# Altium schematic symbol library Iot_Flatform_lib_schematic_PTT.SchLib: 33 symbols
Pins are listed as number, name and electrical type; pins without a type are passive.

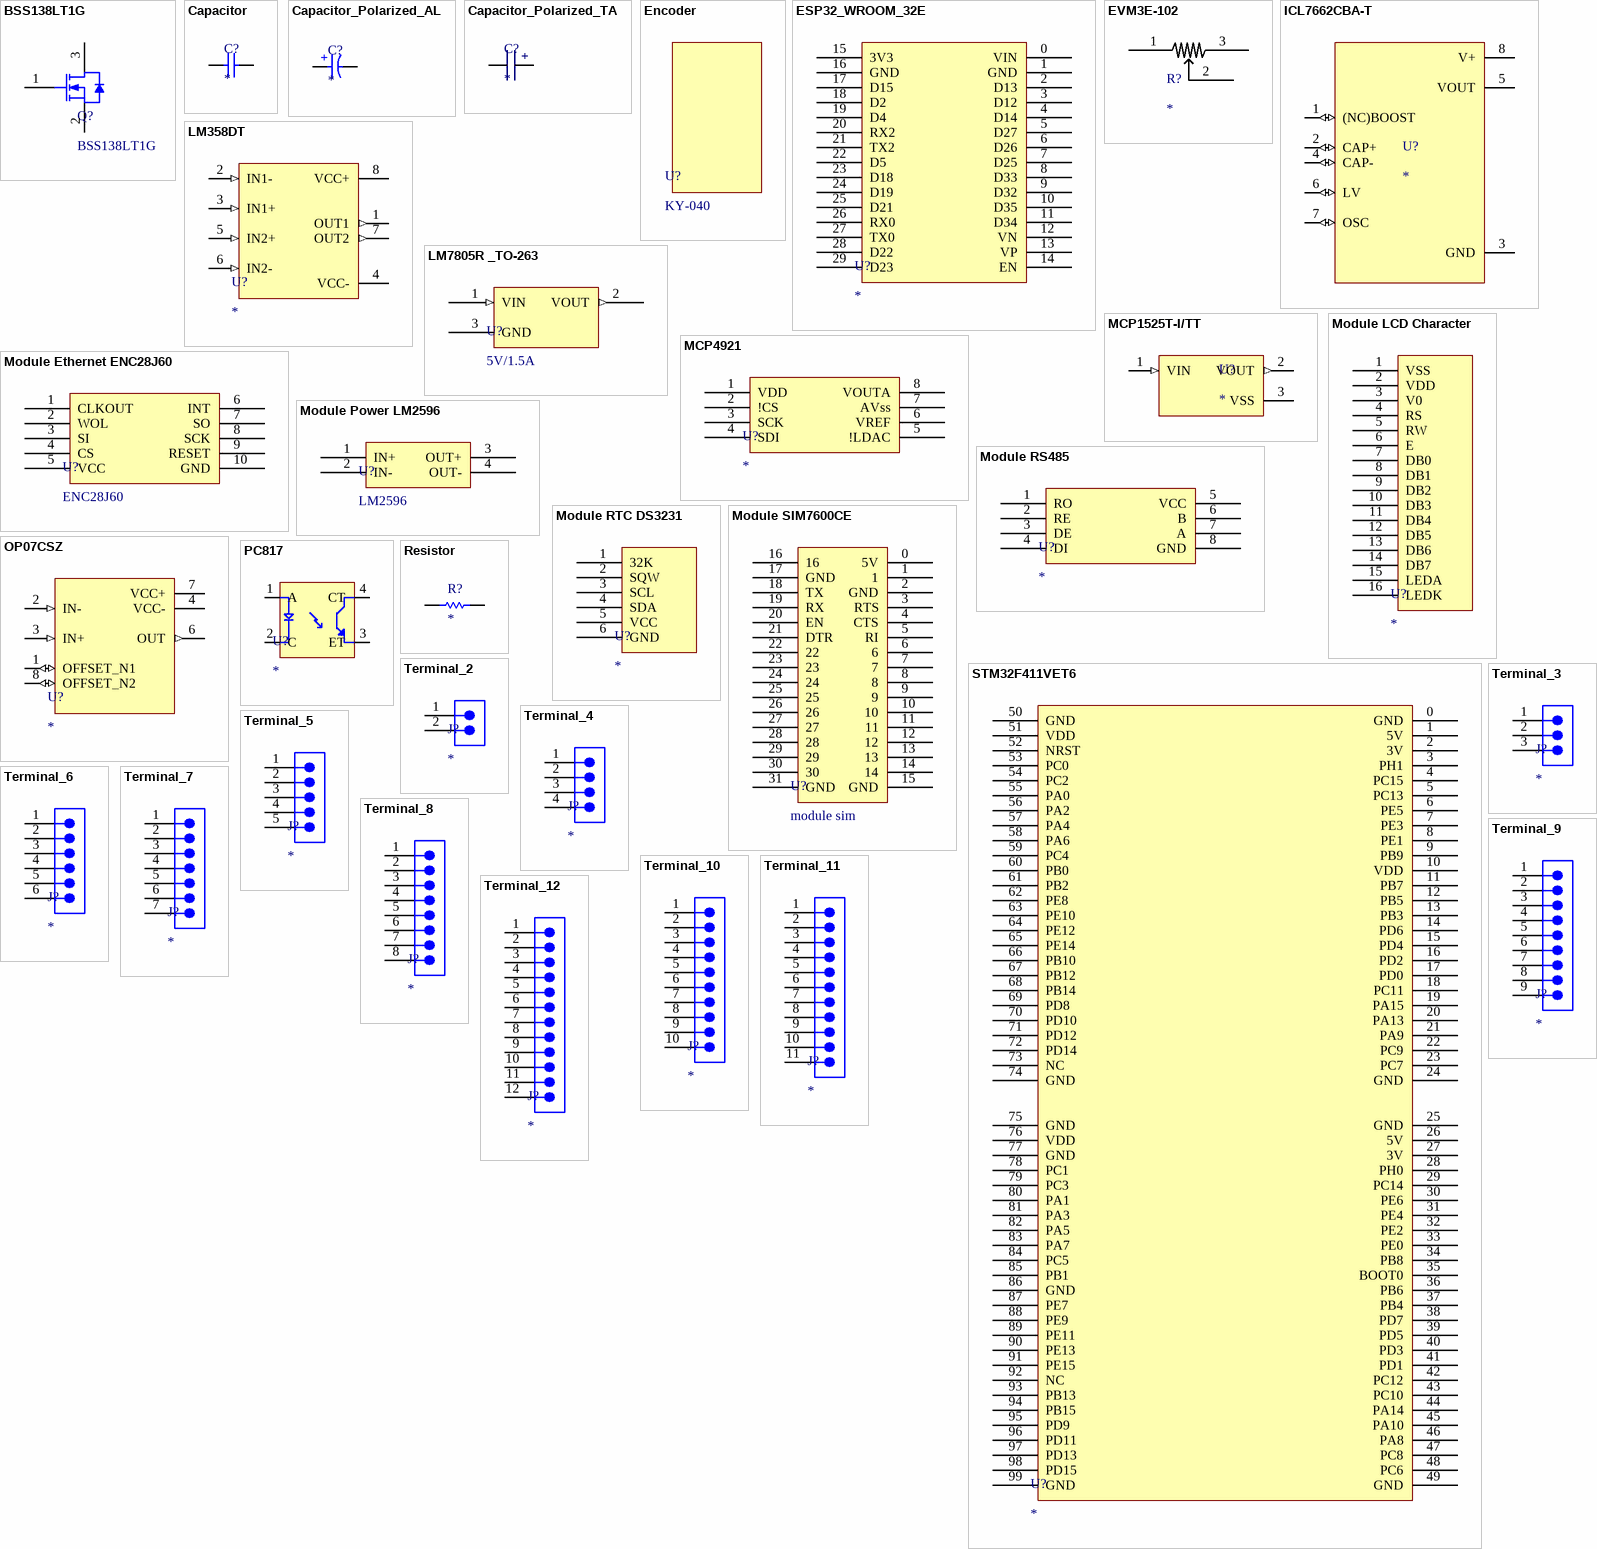
[diagram p0: symbols BSS138LT1G to Terminal_12]

## BSS138LT1G
designator Q?
BSS138LT1G, MOSFET, N ,50V, 200mA ,SOT-23; Size: SOT-23; URL: https://www.thegioiic.com/bss138lt1g-mosfet-kenh-n-50v-200ma-sot-23?gidzl=ejQjBwD9gJIgoweegb-XEgd0foIs3Qmxv9EgAUq7gMEvcFujlbAkFktE-2NgLAvjwy6k8Z0nh38heKYfCm; Value: BSS138LT1G
footprint SQ2398ES-SOT23
pins: 1 G, 2 S, 3 D

## Capacitor
designator C?
Size: *; URL: *; Value: *
footprint CAP_0603 (Chip Capacitor, 2-Leads, Body 1.80x0.80mm, IPC Medium Density)
footprint CAP_0805 (Chip Capacitor, 2-Leads, Body 2.00x1.20mm, IPC Medium Density)
footprint CAP_1210 (Chip Capacitor, 2-Leads, Body 3.20x1.60mm, IPC Medium Density)
pins: 1, 2

## Capacitor_Polarized_AL
designator C?
Size: *; URL: *; Value: *
footprint WCAP-ASLI_D6.3H5.5 (Aluminium Electrolytic V-Chip SMT Capacitors, 6.3x5.5mm)
footprint WCAP-ASLI_D5H5.5 (Aluminium Electrolytic V-Chip SMT Capacitors, 5x5.5mm)
footprint WCAP-ASLI_D6.3H6.1 (Aluminium Electrolytic V-Chip SMT Capacitors, 6.3x6.1mm)
footprint WCAP-ASLI_D6.3H7.7 (Aluminium Electrolytic V-Chip SMT Capacitors, 6.3x7.7mm)
footprint WCAP-ASLI_D8H6.5 (Aluminium Electrolytic V-Chip SMT Capacitors, 8x6.5mm)
footprint WCAP-ASLI_D8H10.5 (Aluminium Electrolytic V-Chip SMT Capacitors, 8x10.5mm)
footprint WCAP-ASLI_D10H10.5 (Aluminium Electrolytic V-Chip SMT Capacitors, 10x10.5mm)
footprint WCAP-ASLI_D12.5H14 (Aluminium Electrolytic V-Chip SMT Capacitors, 12.5x14mm)
footprint WCAP-ASLI_D16H17 (Aluminium Electrolytic V-Chip SMT Capacitors, 16x17mm)
pins: 1 P, 2 N
text: +

## Capacitor_Polarized_TA
designator C?
Size: *; URL: *; Value: *
footprint TANTALUM SMD A (SMD TIPO A 3.2x1.6x1.6)
footprint TANTALUM SMD B (SMD TIPO B 3.5x2.8x1.9)
footprint TANTALUM SMD C (SMD TIPO C 6.0x3.2x2.2)
footprint TANTALUM SMD D (SMD TIPO D 7.3x4.3x2.4)
footprint TANTALUM SMD E (SMD TIPO E  7.3x4.3x4.1)
footprint TANTALUM SMD M (SMD TIPO M 7.2 X 6.0)
footprint TANTALUM SMD V (SMD TIPO V 7.3 x 6.1)
pins: 1, 2
text: +

## Encoder
designator U?, comment KY-040
Size: *; Value: KY-040; URL: https://www.thegioiic.com/ky-040-mach-dieu-khien-goc-quay-encoder

## ESP32_WROOM_32E
designator U?
footprint ESP32_WROOM_32E
pins: 0 VIN, 1 GND, 2 D13, 3 D12, 4 D14, 5 D27, 6 D26, 7 D25, 8 D33, 9 D32, 10 D35, 11 D34, 12 VN, 13 VP, 14 EN, 15 3V3, 16 GND, 17 D15, 18 D2, 19 D4, 20 RX2, 21 TX2, 22 D5, 23 D18, 24 D19, 25 D21, 26 RX0, 27 TX0, 28 D22, 29 D23

## EVM3E-102
designator R?
1KOhm, 0.15W,  ±20%, EVM3E; Value: EVM3E-102; URL: https://www.thegioiic.com/evm3e-102-bien-tro-1-kohm-nut-ao-smd-0-15w; Size: EVM3E
footprint EVM3E
pins: 1, 2, 3

## ICL7662CBA-T
designator U?
Value: ICL7662CBA; Size: 8-SOIC; URL: https://www.thegioiic.com/icl7662cba
footprint SOIC127P600X175-8N
pins: 1 (NC)BOOST (io), 2 CAP+ (io), 3 GND (power), 4 CAP- (io), 5 VOUT (power), 6 LV (io), 7 OSC (io), 8 V+ (power)

## LM358DT
designator U?
General Purpose Amplifier 2 Circuit 8-SO; Value: LM358DT; Size: 8-SOIC; URL: https://www.thegioiic.com/lm358dt-ic-opamp-general-purpose-amplifier-2-circuit-1-1mhz-8-soic
footprint SOIC127P600X175-8N
pins: 1 OUT1 (out), 2 IN1- (in), 3 IN1+ (in), 4 VCC- (power), 5 IN2+ (in), 6 IN2- (in), 7 OUT2 (out), 8 VCC+ (power)

## LM7805R _TO-263
designator U?, comment 5V/1.5A
Size: TO-263; URL: https://www.thegioiic.com/lm7805r-ic-on-ap-5v-1-5a-to-263; Value: 5V/1.5A
footprint TO-263 (D2PAK)
pins: 1 VIN (in), 2 VOUT (out), 3 GND

## MCP1525T-I/TT
designator U?
Series Voltage Reference IC Â±1% SOT-23-3; Value: 2.5VDC; Size: SOT-23; URL: https://www.thegioiic.com/mcp1525t-i-tt-ic-tham-chieu-dien-ap-2-5v-sot-23
footprint SOT95P237X112-3N
pins: 1 VIN (in), 2 VOUT (out), 3 VSS (power)

## MCP4921
designator U?
Interface SPI; Value: MCP4921-E/SN; Size: 8-SOIC; URL: https://www.thegioiic.com/mcp4921-e-sn-ic-dac-12-bit-1-channel-8-soic
footprint SOIC127P600X175-8N
pins: 1 VDD, 2 !CS, 3 SCK, 4 SDI, 5 !LDAC, 6 VREF, 7 AVss, 8 VOUTA

## Module Ethernet ENC28J60
designator U?, comment ENC28J60
Interface SPI; URL: https://hshop.vn/products/mach-chuyen-giao-tiep-ethernet-enc28j60; Value: ENC28J60; Size: Module
pins: 1 CLKOUT, 2 WOL, 3 SI, 4 CS, 5 VCC, 6 INT, 7 SO, 8 SCK, 9 RESET, 10 GND

## Module LCD Character
designator U?
Interface GPIO
footprint LCD_1604
pins: 1 VSS, 2 VDD, 3 V0, 4 RS, 5 RW, 6 E, 7 DB0, 8 DB1, 9 DB2, 10 DB3, 11 DB4, 12 DB5, 13 DB6, 14 DB7, 15 LEDA, 16 LEDK

## Module Power LM2596
designator U?, comment LM2596
DC-DC Buck LM2596 3A
pins: 1 IN+, 2 IN-, 3 OUT+, 4 OUT-

## Module RS485
designator U?
Using module through UART
footprint MODULE_RS485
pins: 1 RO, 2 RE, 3 DE, 4 DI, 5 VCC, 6 B, 7 A, 8 GND

## Module RTC DS3231
designator U?
Interface I2C
footprint Module_DS3231
pins: 1 32K, 2 SQW, 3 SCL, 4 SDA, 5 VCC, 6 GND

## Module SIM7600CE
designator U?, comment module sim
footprint SIM7600CE
pins: 0 5V, 1, 2 GND, 3 RTS, 4 CTS, 5 RI, 6, 7, 8, 9, 10, 11, 12, 13, 14, 15 GND, 16, 17 GND, 18 TX, 19 RX, 20 EN, 21 DTR, 22, 23, 24, 25, 26, 27, 28, 29, 30, 31 GND

## OP07CSZ
designator U?
Low-Offset Voltage Operational Amplifier; Value: OP07CSZ; Size: 8-SOIC; URL: https://www.thegioiic.com/op07csz-ic-opamp-general-purpose-amplifier-1-circuit-600khz-8-soic
footprint SOIC127P600X175-8N
pins: 1 OFFSET_N1 (io), 2 IN- (in), 3 IN+ (in), 4 VCC- (power), 6 OUT (out), 7 VCC+ (power), 8 OFFSET_N2 (io)

## PC817
designator U?
Optoisolator Transistor Output 5000Vrms 1 Channel; Value: PC817C; URL: https://www.thegioiic.com/pc817c-smd-optoisolator-transistor-output-5000vrms-1-channel-4-sop; Size: 4-SOP
footprint SOT254P975X400-4N
pins: 1 A, 2 C, 3 ET, 4 CT

## Resistor
designator R?
Size: *; URL: *; Value: *
footprint RES_0603 (Chip Resistor, 2-Leads, Body 1.55x0.85mm, IPC Medium Density)
footprint RES_0805 (Chip Resistor, 2-Leads, Body 2.05x1.25mm, IPC Medium Density)
footprint RES_1206 (Chip Resistor, 2-Leads, Body 3.15x1.65mm, IPC Medium Density)
pins: 1, 2

## STM32F411VET6
designator U?
footprint STM32F4
pins: 0 GND, 1 5V, 2 3V, 3 PH1, 4 PC15, 5 PC13, 6 PE5, 7 PE3, 8 PE1, 9 PB9, 10 VDD, 11 PB7, 12 PB5, 13 PB3, 14 PD6, 15 PD4, 16 PD2, 17 PD0, 18 PC11, 19 PA15, 20 PA13, 21 PA9, 22 PC9, 23 PC7, 24 GND, 25 GND, 26 5V, 27 3V, 28 PH0, 29 PC14, 30 PE6, 31 PE4, 32 PE2, 33 PE0, 34 PB8, 35 BOOT0, 36 PB6, 37 PB4, 38 PD7, 39 PD5, 40 PD3, 41 PD1, 42 PC12, 43 PC10, 44 PA14, 45 PA10, 46 PA8, 47 PC8, 48 PC6, 49 GND, 50 GND, 51 VDD, 52 NRST, 53 PC0, 54 PC2, 55 PA0, 56 PA2, 57 PA4, 58 PA6, 59 PC4, 60 PB0, 61 PB2, 62 PE8, 63 PE10, 64 PE12, 65 PE14, 66 PB10, 67 PB12, 68 PB14, 69 PD8, 70 PD10, 71 PD12, 72 PD14, 73 NC, 74 GND, 75 GND, 76 VDD, 77 GND, 78 PC1, 79 PC3, 80 PA1, 81 PA3, 82 PA5, 83 PA7, 84 PC5, 85 PB1, 86 GND, 87 PE7, 88 PE9, 89 PE11, 90 PE13, 91 PE15, 92 NC, 93 PB13, 94 PB15, 95 PD9, 96 PD11, 97 PD13, 98 PD15, 99 GND

## Terminal_2
designator J?
Value: 20A, 300V
footprint TBL_2_3_81 (Horizontal PCB Header, pitch 3.81mm, 02p)
footprint TBL_2_5_08 (5,08mm - PCB Header Horizontal Entry with Plastic Latches - 02p)
pins: 1, 2

## Terminal_3
designator J?
Value: 20A, 300V
footprint TBL_3_3_81 (Horizontal PCB Header, pitch 3.81mm, 03p)
footprint TBL_3_5_08 (5,08mm - PCB Header Horizontal Entry with Plastic Latches - 03p)
pins: 1, 2, 3

## Terminal_4
designator J?
Value: 20A, 300V
footprint TBL_4_3_81 (Horizontal PCB Header, pitch 3.81mm, 04p)
footprint TBL_4_5_08 (5,08mm - PCB Header Horizontal Entry with Plastic Latches - 04p)
pins: 1, 2, 3, 4

## Terminal_5
designator J?
Value: 20A, 300V; Size: KF-5.08-2-R; URL: https://www.thegioiic.com/kf-5-08-2-r-terminal-block-plug-in-han-pcb-2-chan-cong-5-08mm-300v-15a
footprint TBL_5_3_81 (Horizontal PCB Header, pitch 3.81mm, 05p)
footprint TBL_5_5_08 (5,08mm - PCB Header Horizontal Entry with Plastic Latches - 05p)
pins: 1, 2, 3, 4, 5

## Terminal_6
designator J?
Value: 20A, 300V; Size: KF-5.08-2-R; URL: https://www.thegioiic.com/kf-5-08-2-r-terminal-block-plug-in-han-pcb-2-chan-cong-5-08mm-300v-15a
pins: 1, 2, 3, 4, 5, 6

## Terminal_7
designator J?
Value: 20A, 300V; Size: KF-5.08-2-R; URL: https://www.thegioiic.com/kf-5-08-2-r-terminal-block-plug-in-han-pcb-2-chan-cong-5-08mm-300v-15a
pins: 1, 2, 3, 4, 5, 6, 7

## Terminal_8
designator J?
Value: 20A, 300V; Size: KF-5.08-2-R; URL: https://www.thegioiic.com/kf-5-08-2-r-terminal-block-plug-in-han-pcb-2-chan-cong-5-08mm-300v-15a
pins: 1, 2, 3, 4, 5, 6, 7, 8

## Terminal_9
designator J?
Value: 20A, 300V; Size: KF-5.08-2-R; URL: https://www.thegioiic.com/kf-5-08-2-r-terminal-block-plug-in-han-pcb-2-chan-cong-5-08mm-300v-15a
pins: 1, 2, 3, 4, 5, 6, 7, 8, 9

## Terminal_10
designator J?
Value: 20A, 300V; Size: KF-5.08-2-R; URL: https://www.thegioiic.com/kf-5-08-2-r-terminal-block-plug-in-han-pcb-2-chan-cong-5-08mm-300v-15a
pins: 1, 2, 3, 4, 5, 6, 7, 8, 9, 10

## Terminal_11
designator J?
Value: 20A, 300V; Size: KF-5.08-2-R; URL: https://www.thegioiic.com/kf-5-08-2-r-terminal-block-plug-in-han-pcb-2-chan-cong-5-08mm-300v-15a
pins: 1, 2, 3, 4, 5, 6, 7, 8, 9, 10, 11

## Terminal_12
designator J?
Value: 20A, 300V; Size: KF-5.08-2-R; URL: https://www.thegioiic.com/kf-5-08-2-r-terminal-block-plug-in-han-pcb-2-chan-cong-5-08mm-300v-15a
pins: 1, 2, 3, 4, 5, 6, 7, 8, 9, 10, 11, 12